# Altium schematic symbol library 0528080871 FPC 8pin.SchLib: 1 symbol
Pins are listed as number, name and electrical type; pins without a type are passive.

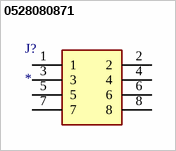
[diagram p0: symbol 0528080871]

## 0528080871
designator J?
Connector; Manufacturer_Name: Molex; Manufacturer_Part_Number: 0528080871; Description: Conn FFC/FPC Connector SKT 8 POS 1mm Solder ST SMD Easy-On T/R; Datasheet Link: https://www.molex.com/pdm_docs/sd/528080871_sd.pdf; Height: 5.3mm; Arrow Part Number: 0528080871; Arrow Price/Stock: https://www.arrow.com/en/products/0528080871/molex
footprint 0528080871
pins: 1, 2, 3, 4, 5, 6, 7, 8